# Altium integrated library Wurth_Elektronik_Passive_rev16a.IntLib: 1143 symbols (part 17 of 28)
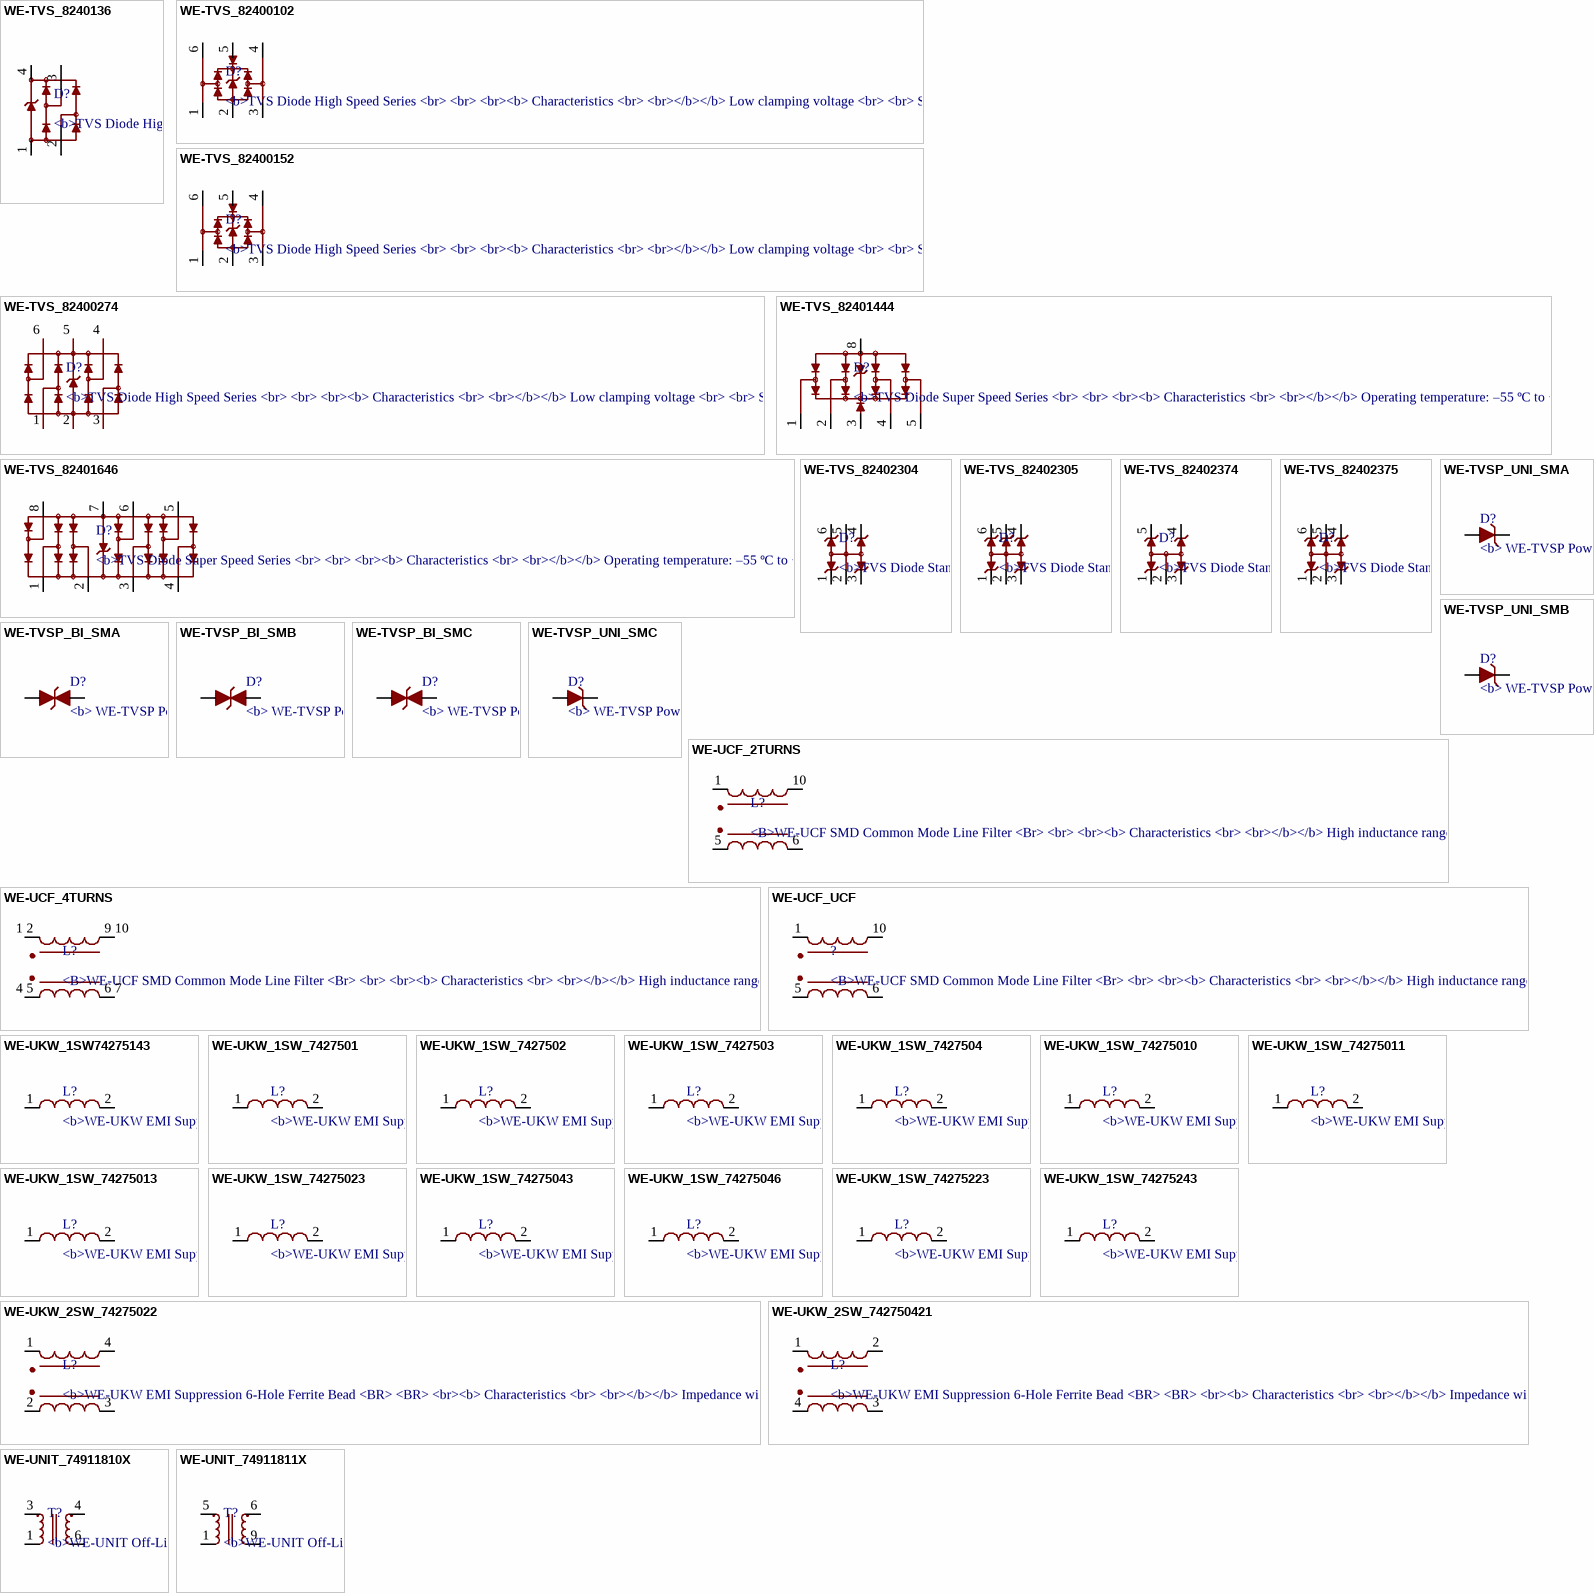
[diagram p74: symbols WE-TVS_8240136 to WE-UNIT_74911811X]

## WE-UKW_1SW_7427503
designator L?, comment <b>WE-UKW EMI Suppression 6-Hole Ferrite Bead / <BR> / <BR> / <br><b> Characteristics / <br> / <br></b></b> Impedance will increase with more turns, available in 1 to 3 turns / <br> / <br> 4 different materials available for perfect interference suppression / <Br> / <br> Also available ready-bent or in individual length / <br> / <br> Maximum current capability is 3 A / 5 A (short-time) / <br> / <br> Operating temperature: –25 ºC to +125 ºC / <br> / <br> / <br><b> Applications / <br> / <br></b> Protection against radio frequency interferences of components on PCB’s of PC’s, text processing and other digital devices / <br> / <br> / <br> / <br><a href="http://katalog.we-online.de/media/images/eisos/FeUKW_pf2.jpg" title="Enlarge picture"> / <img src="http://katalog.we-online.de/media/thumbs2/eisos/thb_FeUKW_pf2.jpg" width="320"></a><p> / Details see: <a href="http://katalog.we-online.de/en/pbs/WE-UKW/S/">http://katalog.we-online.de/en/pbs/WE-UKW/S/</a><p> / </b>Created  by  Dan Xu 2014-06-10<br> / </b>2014 (C) Wurth Elektronik
footprint WE-UKW_7427503
pins: 1, 2

## WE-UKW_1SW_7427504
designator L?, comment <b>WE-UKW EMI Suppression 6-Hole Ferrite Bead / <BR> / <BR> / <br><b> Characteristics / <br> / <br></b></b> Impedance will increase with more turns, available in 1 to 3 turns / <br> / <br> 4 different materials available for perfect interference suppression / <Br> / <br> Also available ready-bent or in individual length / <br> / <br> Maximum current capability is 3 A / 5 A (short-time) / <br> / <br> Operating temperature: –25 ºC to +125 ºC / <br> / <br> / <br><b> Applications / <br> / <br></b> Protection against radio frequency interferences of components on PCB’s of PC’s, text processing and other digital devices / <br> / <br> / <br> / <br><a href="http://katalog.we-online.de/media/images/eisos/FeUKW_pf2.jpg" title="Enlarge picture"> / <img src="http://katalog.we-online.de/media/thumbs2/eisos/thb_FeUKW_pf2.jpg" width="320"></a><p> / Details see: <a href="http://katalog.we-online.de/en/pbs/WE-UKW/S/">http://katalog.we-online.de/en/pbs/WE-UKW/S/</a><p> / </b>Created  by  Dan Xu 2014-06-10<br> / </b>2014 (C) Wurth Elektronik
footprint WE-UKW_7427504
pins: 1, 2

## WE-UKW_1SW_74275010
designator L?, comment <b>WE-UKW EMI Suppression 6-Hole Ferrite Bead / <BR> / <BR> / <br><b> Characteristics / <br> / <br></b></b> Impedance will increase with more turns, available in 1 to 3 turns / <br> / <br> 4 different materials available for perfect interference suppression / <Br> / <br> Also available ready-bent or in individual length / <br> / <br> Maximum current capability is 3 A / 5 A (short-time) / <br> / <br> Operating temperature: –25 ºC to +125 ºC / <br> / <br> / <br><b> Applications / <br> / <br></b> Protection against radio frequency interferences of components on PCB’s of PC’s, text processing and other digital devices / <br> / <br> / <br> / <br><a href="http://katalog.we-online.de/media/images/eisos/FeUKW_pf2.jpg" title="Enlarge picture"> / <img src="http://katalog.we-online.de/media/thumbs2/eisos/thb_FeUKW_pf2.jpg" width="320"></a><p> / Details see: <a href="http://katalog.we-online.de/en/pbs/WE-UKW/S/">http://katalog.we-online.de/en/pbs/WE-UKW/S/</a><p> / </b>Created  by  Dan Xu 2014-06-10<br> / </b>2014 (C) Wurth Elektronik
footprint WE-UKW_74275010
pins: 1, 2

## WE-UKW_1SW_74275011
designator L?, comment <b>WE-UKW EMI Suppression 6-Hole Ferrite Bead / <BR> / <BR> / <br><b> Characteristics / <br> / <br></b></b> Impedance will increase with more turns, available in 1 to 3 turns / <br> / <br> 4 different materials available for perfect interference suppression / <Br> / <br> Also available ready-bent or in individual length / <br> / <br> Maximum current capability is 3 A / 5 A (short-time) / <br> / <br> Operating temperature: –25 ºC to +125 ºC / <br> / <br> / <br><b> Applications / <br> / <br></b> Protection against radio frequency interferences of components on PCB’s of PC’s, text processing and other digital devices / <br> / <br> / <br> / <br><a href="http://katalog.we-online.de/media/images/eisos/FeUKW_pf2.jpg" title="Enlarge picture"> / <img src="http://katalog.we-online.de/media/thumbs2/eisos/thb_FeUKW_pf2.jpg" width="320"></a><p> / Details see: <a href="http://katalog.we-online.de/en/pbs/WE-UKW/S/">http://katalog.we-online.de/en/pbs/WE-UKW/S/</a><p> / </b>Created  by  Dan Xu 2014-06-10<br> / </b>2014 (C) Wurth Elektronik
footprint WE-UKW_74275011
pins: 1, 2

## WE-UKW_1SW_74275013
designator L?, comment <b>WE-UKW EMI Suppression 6-Hole Ferrite Bead / <BR> / <BR> / <br><b> Characteristics / <br> / <br></b></b> Impedance will increase with more turns, available in 1 to 3 turns / <br> / <br> 4 different materials available for perfect interference suppression / <Br> / <br> Also available ready-bent or in individual length / <br> / <br> Maximum current capability is 3 A / 5 A (short-time) / <br> / <br> Operating temperature: –25 ºC to +125 ºC / <br> / <br> / <br><b> Applications / <br> / <br></b> Protection against radio frequency interferences of components on PCB’s of PC’s, text processing and other digital devices / <br> / <br> / <br> / <br><a href="http://katalog.we-online.de/media/images/eisos/FeUKW_pf2.jpg" title="Enlarge picture"> / <img src="http://katalog.we-online.de/media/thumbs2/eisos/thb_FeUKW_pf2.jpg" width="320"></a><p> / Details see: <a href="http://katalog.we-online.de/en/pbs/WE-UKW/S/">http://katalog.we-online.de/en/pbs/WE-UKW/S/</a><p> / </b>Created  by  Dan Xu 2014-06-10<br> / </b>2014 (C) Wurth Elektronik
footprint WE-UKW_74275013
pins: 1, 2

## WE-UKW_1SW_74275023
designator L?, comment <b>WE-UKW EMI Suppression 6-Hole Ferrite Bead / <BR> / <BR> / <br><b> Characteristics / <br> / <br></b></b> Impedance will increase with more turns, available in 1 to 3 turns / <br> / <br> 4 different materials available for perfect interference suppression / <Br> / <br> Also available ready-bent or in individual length / <br> / <br> Maximum current capability is 3 A / 5 A (short-time) / <br> / <br> Operating temperature: –25 ºC to +125 ºC / <br> / <br> / <br><b> Applications / <br> / <br></b> Protection against radio frequency interferences of components on PCB’s of PC’s, text processing and other digital devices / <br> / <br> / <br> / <br><a href="http://katalog.we-online.de/media/images/eisos/FeUKW_pf2.jpg" title="Enlarge picture"> / <img src="http://katalog.we-online.de/media/thumbs2/eisos/thb_FeUKW_pf2.jpg" width="320"></a><p> / Details see: <a href="http://katalog.we-online.de/en/pbs/WE-UKW/S/">http://katalog.we-online.de/en/pbs/WE-UKW/S/</a><p> / </b>Created  by  Dan Xu 2014-06-10<br> / </b>2014 (C) Wurth Elektronik
footprint WE-UKW_74275023
pins: 1, 2

## WE-UKW_1SW_74275043
designator L?, comment <b>WE-UKW EMI Suppression 6-Hole Ferrite Bead / <BR> / <BR> / <br><b> Characteristics / <br> / <br></b></b> Impedance will increase with more turns, available in 1 to 3 turns / <br> / <br> 4 different materials available for perfect interference suppression / <Br> / <br> Also available ready-bent or in individual length / <br> / <br> Maximum current capability is 3 A / 5 A (short-time) / <br> / <br> Operating temperature: –25 ºC to +125 ºC / <br> / <br> / <br><b> Applications / <br> / <br></b> Protection against radio frequency interferences of components on PCB’s of PC’s, text processing and other digital devices / <br> / <br> / <br> / <br><a href="http://katalog.we-online.de/media/images/eisos/FeUKW_pf2.jpg" title="Enlarge picture"> / <img src="http://katalog.we-online.de/media/thumbs2/eisos/thb_FeUKW_pf2.jpg" width="320"></a><p> / Details see: <a href="http://katalog.we-online.de/en/pbs/WE-UKW/S/">http://katalog.we-online.de/en/pbs/WE-UKW/S/</a><p> / </b>Created  by  Dan Xu 2014-06-10<br> / </b>2014 (C) Wurth Elektronik
footprint WE-UKW_74275043
pins: 1, 2

## WE-UKW_1SW_74275046
designator L?, comment <b>WE-UKW EMI Suppression 6-Hole Ferrite Bead / <BR> / <BR> / <br><b> Characteristics / <br> / <br></b></b> Impedance will increase with more turns, available in 1 to 3 turns / <br> / <br> 4 different materials available for perfect interference suppression / <Br> / <br> Also available ready-bent or in individual length / <br> / <br> Maximum current capability is 3 A / 5 A (short-time) / <br> / <br> Operating temperature: –25 ºC to +125 ºC / <br> / <br> / <br><b> Applications / <br> / <br></b> Protection against radio frequency interferences of components on PCB’s of PC’s, text processing and other digital devices / <br> / <br> / <br> / <br><a href="http://katalog.we-online.de/media/images/eisos/FeUKW_pf2.jpg" title="Enlarge picture"> / <img src="http://katalog.we-online.de/media/thumbs2/eisos/thb_FeUKW_pf2.jpg" width="320"></a><p> / Details see: <a href="http://katalog.we-online.de/en/pbs/WE-UKW/S/">http://katalog.we-online.de/en/pbs/WE-UKW/S/</a><p> / </b>Created  by  Dan Xu 2014-06-10<br> / </b>2014 (C) Wurth Elektronik
footprint WE-UKW_74275046
pins: 1, 2

## WE-UKW_1SW_74275223
designator L?, comment <b>WE-UKW EMI Suppression 6-Hole Ferrite Bead / <BR> / <BR> / <br><b> Characteristics / <br> / <br></b></b> Impedance will increase with more turns, available in 1 to 3 turns / <br> / <br> 4 different materials available for perfect interference suppression / <Br> / <br> Also available ready-bent or in individual length / <br> / <br> Maximum current capability is 3 A / 5 A (short-time) / <br> / <br> Operating temperature: –25 ºC to +125 ºC / <br> / <br> / <br><b> Applications / <br> / <br></b> Protection against radio frequency interferences of components on PCB’s of PC’s, text processing and other digital devices / <br> / <br> / <br> / <br><a href="http://katalog.we-online.de/media/images/eisos/FeUKW_pf2.jpg" title="Enlarge picture"> / <img src="http://katalog.we-online.de/media/thumbs2/eisos/thb_FeUKW_pf2.jpg" width="320"></a><p> / Details see: <a href="http://katalog.we-online.de/en/pbs/WE-UKW/S/">http://katalog.we-online.de/en/pbs/WE-UKW/S/</a><p> / </b>Created  by  Dan Xu 2014-06-10<br> / </b>2014 (C) Wurth Elektronik
footprint WE-UKW_74275223
pins: 1, 2

## WE-UKW_1SW_74275243
designator L?, comment <b>WE-UKW EMI Suppression 6-Hole Ferrite Bead / <BR> / <BR> / <br><b> Characteristics / <br> / <br></b></b> Impedance will increase with more turns, available in 1 to 3 turns / <br> / <br> 4 different materials available for perfect interference suppression / <Br> / <br> Also available ready-bent or in individual length / <br> / <br> Maximum current capability is 3 A / 5 A (short-time) / <br> / <br> Operating temperature: –25 ºC to +125 ºC / <br> / <br> / <br><b> Applications / <br> / <br></b> Protection against radio frequency interferences of components on PCB’s of PC’s, text processing and other digital devices / <br> / <br> / <br> / <br><a href="http://katalog.we-online.de/media/images/eisos/FeUKW_pf2.jpg" title="Enlarge picture"> / <img src="http://katalog.we-online.de/media/thumbs2/eisos/thb_FeUKW_pf2.jpg" width="320"></a><p> / Details see: <a href="http://katalog.we-online.de/en/pbs/WE-UKW/S/">http://katalog.we-online.de/en/pbs/WE-UKW/S/</a><p> / </b>Created  by  Dan Xu 2014-06-10<br> / </b>2014 (C) Wurth Elektronik
footprint WE-UKW_74275243
pins: 1, 2

## WE-UKW_2SW_74275022
designator L?, comment <b>WE-UKW EMI Suppression 6-Hole Ferrite Bead / <BR> / <BR> / <br><b> Characteristics / <br> / <br></b></b> Impedance will increase with more turns, available in 1 to 3 turns / <br> / <br> 4 different materials available for perfect interference suppression / <Br> / <br> Also available ready-bent or in individual length / <br> / <br> Maximum current capability is 3 A / 5 A (short-time) / <br> / <br> Operating temperature: –25 ºC to +125 ºC / <br> / <br> / <br><b> Applications / <br> / <br></b> Protection against radio frequency interferences of components on PCB’s of PC’s, text processing and other digital devices / <br> / <br> / <br> / <br><a href="http://katalog.we-online.de/media/images/eisos/FeUKW_pf2.jpg" title="Enlarge picture"> / <img src="http://katalog.we-online.de/media/thumbs2/eisos/thb_FeUKW_pf2.jpg" width="320"></a><p> / Details see: <a href="http://katalog.we-online.de/en/pbs/WE-UKW/S/">http://katalog.we-online.de/en/pbs/WE-UKW/S/</a><p> / </b>Created  by  Dan Xu 2014-06-10<br> / </b>2014 (C) Wurth Elektronik
footprint WE-UKW_74275022
pins: 1, 2 4, 3, 4 2

## WE-UKW_2SW_742750421
designator L?, comment <b>WE-UKW EMI Suppression 6-Hole Ferrite Bead / <BR> / <BR> / <br><b> Characteristics / <br> / <br></b></b> Impedance will increase with more turns, available in 1 to 3 turns / <br> / <br> 4 different materials available for perfect interference suppression / <Br> / <br> Also available ready-bent or in individual length / <br> / <br> Maximum current capability is 3 A / 5 A (short-time) / <br> / <br> Operating temperature: –25 ºC to +125 ºC / <br> / <br> / <br><b> Applications / <br> / <br></b> Protection against radio frequency interferences of components on PCB’s of PC’s, text processing and other digital devices / <br> / <br> / <br> / <br><a href="http://katalog.we-online.de/media/images/eisos/FeUKW_pf2.jpg" title="Enlarge picture"> / <img src="http://katalog.we-online.de/media/thumbs2/eisos/thb_FeUKW_pf2.jpg" width="320"></a><p> / Details see: <a href="http://katalog.we-online.de/en/pbs/WE-UKW/S/">http://katalog.we-online.de/en/pbs/WE-UKW/S/</a><p> / </b>Created  by  Dan Xu 2014-06-10<br> / </b>2014 (C) Wurth Elektronik
footprint WE-UKW_742750421
pins: 1, 2, 3, 4

## WE-UNIT_74911810X
designator T?, comment <b>WE-UNIT Off-Line Transformer / <br> / <br> / <br><b> Characteristics / <br> / <br></b></b> Nominal input voltage: 125–375 VDC (85–265 VAC) / <br> / <br> Output power 3 W and 9 W / <br> / <br> Operating temperature: –40 °C to +125 °C / <br> / <br> Clearance and creepage distance 6 mm min. / <br> / <br> Insulation test voltage: 4 kVAC, 1 Minute / <br> / <br> Design compliant to EN 61558-2-16: reinforced insulation; except 749 118 10 xx: Basic insulation / <br> / <br> / <br><b> Applications / <br> / <br></b> Designed for Tiny Switch ICs from Power Integration and NCP101x or 105x of ON Semiconductor / <br> / <br> For SMPS with universal input from 85 VAC up to 265 VAC / <br> / <br> / <br> / <br><a href="http://katalog.we-online.de/media/images/eisos/UtUNIT_MID_pf2.jpg" title="Enlarge picture"> / <img src="http://katalog.we-online.de/media/thumbs2/eisos/thb_UtUNIT_MID_pf2.jpg" width="320"></a><p> / Details see: <a href="http://katalog.we-online.de/en/pbs/WE-UNIT?m">http://katalog.we-online.de/en/pbs/WE-UNIT?m</a><p> / Updated  by  Dan Xu 2014-07-11<br> / 2014 (C) Wurth Elektronik
footprint WE_E13/7/4_THT_VERTIKAL_6PIN
pins: 1 4, 3 1, 4 2, 6 3

## WE-UNIT_74911811X
designator T?, comment <b>WE-UNIT Off-Line Transformer / <br> / <br> / <br><b> Characteristics / <br> / <br></b></b> Nominal input voltage: 125–375 VDC (85–265 VAC) / <br> / <br> Output power 3 W and 9 W / <br> / <br> Operating temperature: –40 °C to +125 °C / <br> / <br> Clearance and creepage distance 6 mm min. / <br> / <br> Insulation test voltage: 4 kVAC, 1 Minute / <br> / <br> Design compliant to EN 61558-2-16: reinforced insulation; except 749 118 10 xx: Basic insulation / <br> / <br> / <br><b> Applications / <br> / <br></b> Designed for Tiny Switch ICs from Power Integration and NCP101x or 105x of ON Semiconductor / <br> / <br> For SMPS with universal input from 85 VAC up to 265 VAC / <br> / <br> / <br> / <br><a href="http://katalog.we-online.de/media/images/eisos/UtUNIT_MID_pf2.jpg" title="Enlarge picture"> / <img src="http://katalog.we-online.de/media/thumbs2/eisos/thb_UtUNIT_MID_pf2.jpg" width="320"></a><p> / Details see: <a href="http://katalog.we-online.de/en/pbs/WE-UNIT?m">http://katalog.we-online.de/en/pbs/WE-UNIT?m</a><p> / Updated  by  Dan Xu 2014-07-11<br> / 2014 (C) Wurth Elektronik
footprint WE_E13/7/4_THT_HORIZONTAL_9PIN
pins: 1 4, 5 1, 6 2, 9 3

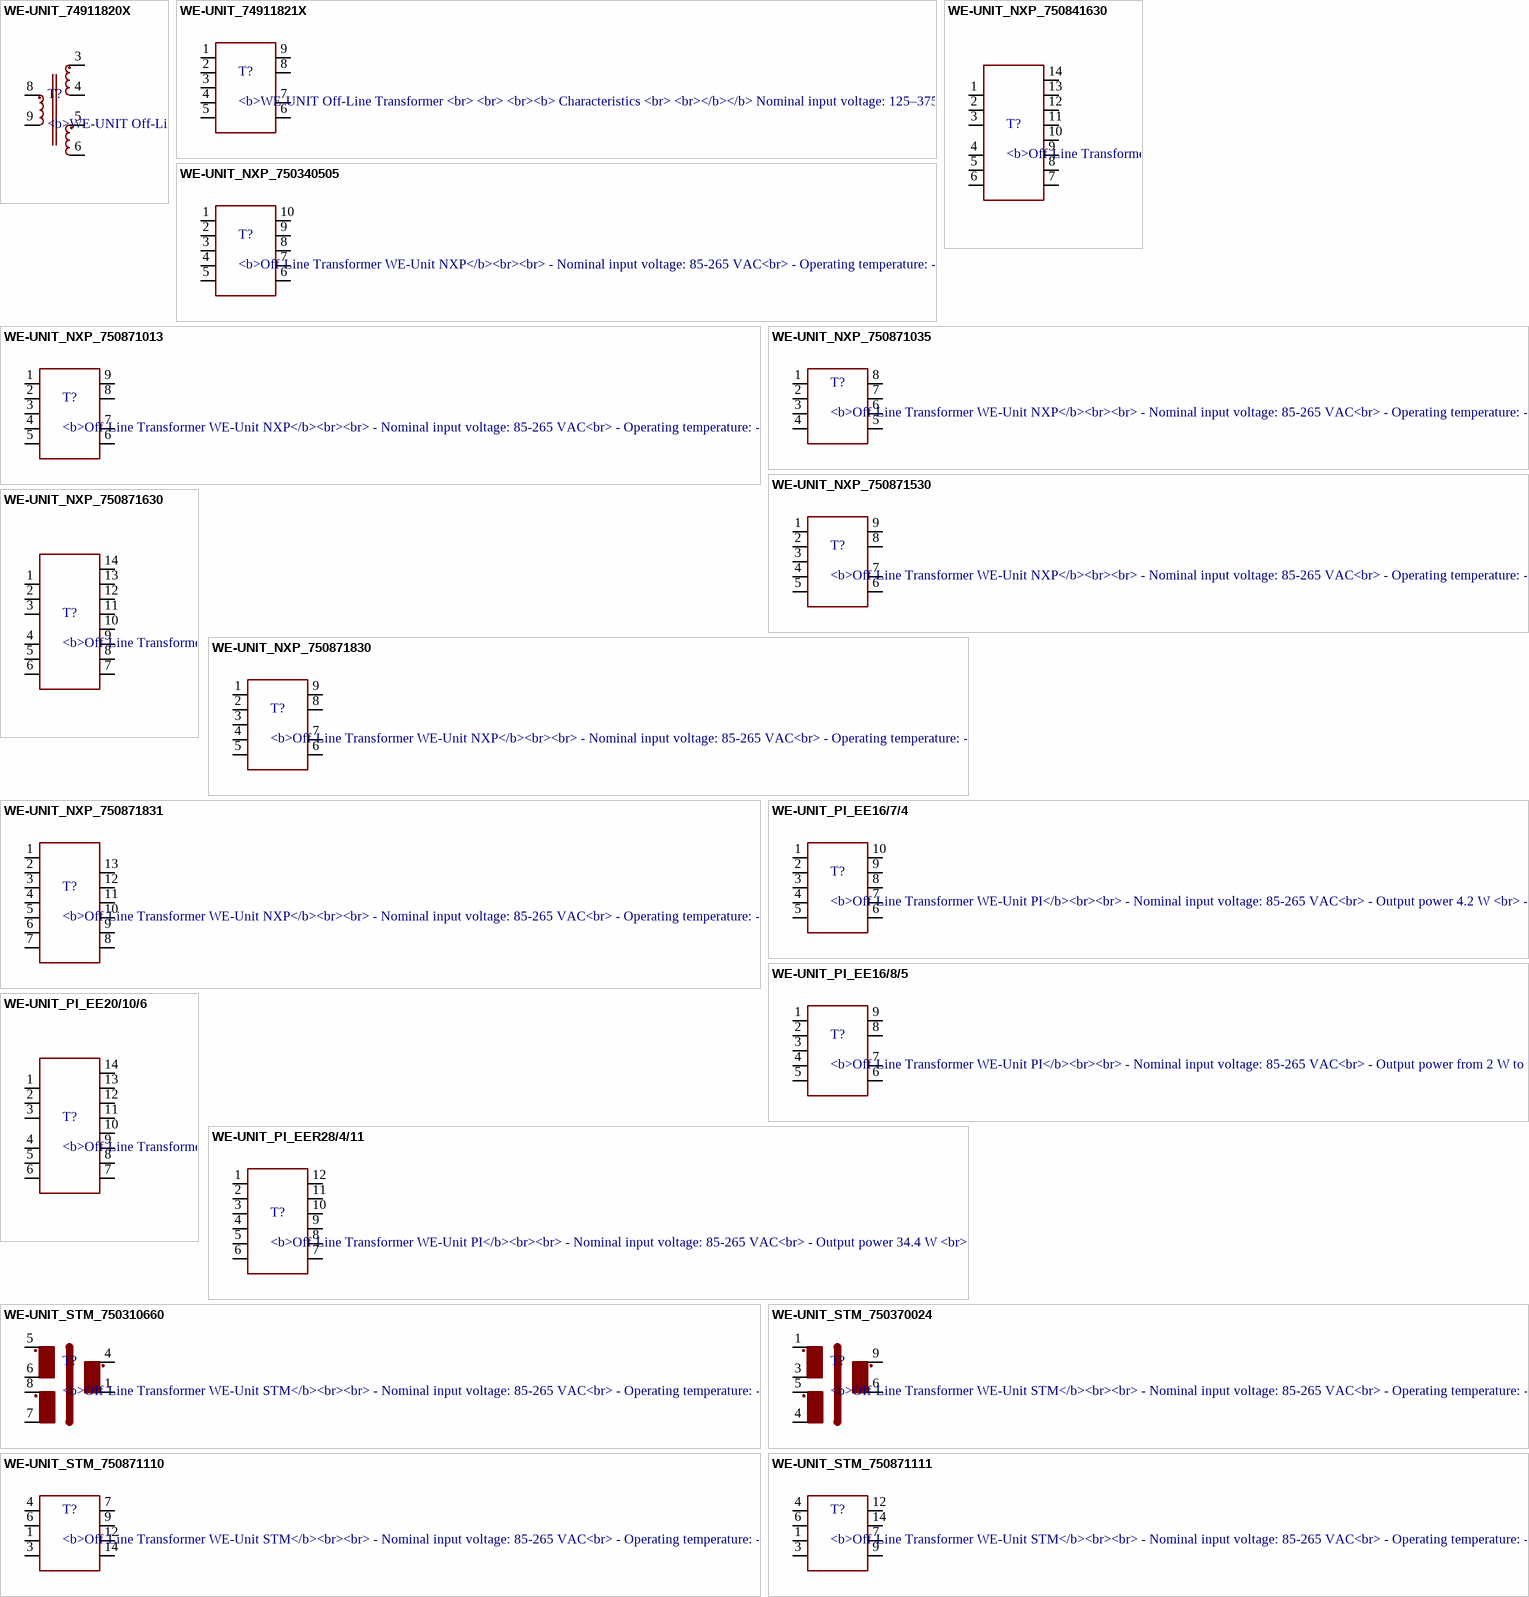
[diagram p48: symbols WE-UNIT_74911820X to WE-UNIT_STM_750871111]

## WE-UNIT_74911820X
designator T?, comment <b>WE-UNIT Off-Line Transformer / <br> / <br> / <br><b> Characteristics / <br> / <br></b></b> Nominal input voltage: 125–375 VDC (85–265 VAC) / <br> / <br> Output power 3 W and 9 W / <br> / <br> Operating temperature: –40 °C to +125 °C / <br> / <br> Clearance and creepage distance 6 mm min. / <br> / <br> Insulation test voltage: 4 kVAC, 1 Minute / <br> / <br> Design compliant to EN 61558-2-16: reinforced insulation; except 749 118 10 xx: Basic insulation / <br> / <br> / <br><b> Applications / <br> / <br></b> Designed for Tiny Switch ICs from Power Integration and NCP101x or 105x of ON Semiconductor / <br> / <br> For SMPS with universal input from 85 VAC up to 265 VAC / <br> / <br> / <br> / <br><a href="http://katalog.we-online.de/media/images/eisos/UtUNIT_MID_pf2.jpg" title="Enlarge picture"> / <img src="http://katalog.we-online.de/media/thumbs2/eisos/thb_UtUNIT_MID_pf2.jpg" width="320"></a><p> / Details see: <a href="http://katalog.we-online.de/en/pbs/WE-UNIT?m">http://katalog.we-online.de/en/pbs/WE-UNIT?m</a><p> / Updated  by  Dan Xu 2014-07-11<br> / 2014 (C) Wurth Elektronik
footprint WE_E16/7/4_THT_VERTIKAL_10PIN
pins: 3 2, 4 3, 5 4, 6 5, 8 1, 9 6

## WE-UNIT_74911821X
designator T?, comment <b>WE-UNIT Off-Line Transformer / <br> / <br> / <br><b> Characteristics / <br> / <br></b></b> Nominal input voltage: 125–375 VDC (85–265 VAC) / <br> / <br> Output power 3 W and 9 W / <br> / <br> Operating temperature: –40 °C to +125 °C / <br> / <br> Clearance and creepage distance 6 mm min. / <br> / <br> Insulation test voltage: 4 kVAC, 1 Minute / <br> / <br> Design compliant to EN 61558-2-16: reinforced insulation; except 749 118 10 xx: Basic insulation / <br> / <br> / <br><b> Applications / <br> / <br></b> Designed for Tiny Switch ICs from Power Integration and NCP101x or 105x of ON Semiconductor / <br> / <br> For SMPS with universal input from 85 VAC up to 265 VAC / <br> / <br> / <br> / <br><a href="http://katalog.we-online.de/media/images/eisos/UtUNIT_MID_pf2.jpg" title="Enlarge picture"> / <img src="http://katalog.we-online.de/media/thumbs2/eisos/thb_UtUNIT_MID_pf2.jpg" width="320"></a><p> / Details see: <a href="http://katalog.we-online.de/en/pbs/WE-UNIT?m">http://katalog.we-online.de/en/pbs/WE-UNIT?m</a><p> / Updated  by  Dan Xu 2014-07-11<br> / 2014 (C) Wurth Elektronik
footprint WE_E16/8/5_THT_HORIZONTAL_9PIN
pins: 1 5, 2 4, 3, 4 2, 5 1, 6 9, 7 8, 8 7, 9 6

## WE-UNIT_NXP_750340505
designator T?, comment <b>Off-Line Transformer WE-Unit NXP</b><br><br> / - Nominal input voltage: 85-265 VAC<br> / - Operating temperature: -40°C to +125 °C<br> / - Isolation voltage 4 kVAC<br><br> / -- Especially designed for several ICs from NXP SSL2101<br> / -- Universal input<br> / -- Smart meters<br> / -- Dimmable 12 V LED driver<br> / -- Offline-switch mode power supplies / <br><a href="http://katalog.we-online.de/media/images/ctm/UtUNIT_NXP_pf2.jpg" title="Enlarge picture"> / <img src="http://katalog.we-online.de/media/images/ctm/UtUNIT_NXP_pf2.jpg" width="320"></a><p> / Details see: <a href="http://katalog.we-online.de/en/ctm/MID-UNIT_NXP/750340505?">http://katalog.we-online.de/en/ctm/MID-UNIT_NXP/750340505?</a><p> / Updated  by  Dan Xu 2014-07-11<br> / 2014 (C) Würth Elektronik
footprint WE_EFD25_THT_HORIZONTAL_10PIN
pins: 1, 2, 3, 4, 5, 6, 7, 8, 9, 10

## WE-UNIT_NXP_750841630
designator T?, comment <b>Off-Line Transformer WE-Unit NXP</b><br><br> / - Nominal input voltage: 85-265 VAC<br> / - Operating temperature: -40°C to +125 °C<br> / - Isolation voltage 4 kVAC<br><br> / -- Especially designed for several ICs from NXP TEA1522<br> / -- Universal input<br> / -- Smart meters<br> / -- Dimmable 12 V LED driver<br> / -- Offline-switch mode power supplies / <br><a href="http://katalog.we-online.de/media/images/ctm/UtUNIT_NXP_pf2.jpg" title="Enlarge picture"> / <img src="http://katalog.we-online.de/media/images/ctm/UtUNIT_NXP_pf2.jpg" width="320"></a><p> / Details see: <a href="http://katalog.we-online.de/en/ctm/MID-UNIT_NXP/750841630?">http://katalog.we-online.de/en/ctm/MID-UNIT_NXP/750841630?</a><p> / Updated  by  Dan Xu 2014-07-11<br> / 2014 (C) Würth Elektronik
footprint WE_EE20/10/6_THT_HORIZONTAL_14PIN
pins: 1, 2, 3, 4, 5, 6, 7, 8, 9, 10, 11, 12, 13, 14

## WE-UNIT_NXP_750871013
designator T?, comment <b>Off-Line Transformer WE-Unit NXP</b><br><br> / - Nominal input voltage: 85-265 VAC<br> / - Operating temperature: -40°C to +125 °C<br> / - Isolation voltage 4 kVAC<br><br> / -- Especially designed for several ICs from NXP TEA1521T<br> / -- Universal input<br> / -- Smart meters<br> / -- Dimmable 12 V LED driver<br> / -- Offline-switch mode power supplies / <br><a href="http://katalog.we-online.de/media/images/ctm/UtUNIT_NXP_pf2.jpg" title="Enlarge picture"> / <img src="http://katalog.we-online.de/media/images/ctm/UtUNIT_NXP_pf2.jpg" width="320"></a><p> / Details see: <a href="http://katalog.we-online.de/en/ctm/MID-UNIT_NXP/750871013?">http://katalog.we-online.de/en/ctm/MID-UNIT_NXP/750871013?</a><p> / Updated  by  Dan Xu 2014-07-11<br> / 2014 (C) Würth Elektronik
footprint WE_EE13/7/4_THT_HORIZONTAL_9PIN
pins: 1 5, 2 4, 3, 4 2, 5 1, 6 9, 7 8, 8 7, 9 6

## WE-UNIT_NXP_750871035
designator T?, comment <b>Off-Line Transformer WE-Unit NXP</b><br><br> / - Nominal input voltage: 85-265 VAC<br> / - Operating temperature: -40°C to +125 °C<br> / - Isolation voltage 4 kVAC<br><br> / -- Especially designed for several ICs from NXP TEA1522T<br> / -- Universal input<br> / -- Smart meters<br> / -- Dimmable 12 V LED driver<br> / -- Offline-switch mode power supplies / <br><a href="http://katalog.we-online.de/media/images/ctm/UtUNIT_NXP_pf2.jpg" title="Enlarge picture"> / <img src="http://katalog.we-online.de/media/images/ctm/UtUNIT_NXP_pf2.jpg" width="320"></a><p> / Details see: <a href="http://katalog.we-online.de/en/ctm/MID-UNIT_NXP/750871035?">http://katalog.we-online.de/en/ctm/MID-UNIT_NXP/750871035?</a><p> / Updated  by  Dan Xu 2014-07-11<br> / 2014 (C) Würth Elektronik
footprint WE_EE13/6/6_THT_HORIZONTAL_8PIN
pins: 1 4, 2 3, 3 2, 4 1, 5 8, 6 7, 7 6, 8 5

## WE-UNIT_NXP_750871530
designator T?, comment <b>Off-Line Transformer WE-Unit NXP</b><br><br> / - Nominal input voltage: 85-265 VAC<br> / - Operating temperature: -40°C to +125 °C<br> / - Isolation voltage 4 kVAC<br><br> / -- Especially designed for several ICs from NXP TEA1522<br> / -- Universal input<br> / -- Smart meters<br> / -- Dimmable 12 V LED driver<br> / -- Offline-switch mode power supplies / <br><a href="http://katalog.we-online.de/media/images/ctm/UtUNIT_NXP_pf2.jpg" title="Enlarge picture"> / <img src="http://katalog.we-online.de/media/images/ctm/UtUNIT_NXP_pf2.jpg" width="320"></a><p> / Details see: <a href="http://katalog.we-online.de/en/ctm/MID-UNIT_NXP/750871530?">http://katalog.we-online.de/en/ctm/MID-UNIT_NXP/750871530?</a><p> / Updated  by  Dan Xu 2014-07-11<br> / 2014 (C) Würth Elektronik
footprint WE_EE16/8/5_THT_HORIZONTAL_9PIN
pins: 1 5, 2 4, 3, 4 2, 5 1, 6 9, 7 8, 8 7, 9 6

## WE-UNIT_NXP_750871630
designator T?, comment <b>Off-Line Transformer WE-Unit NXP</b><br><br> / - Nominal input voltage: 85-265 VAC<br> / - Operating temperature: -40°C to +125 °C<br> / - Isolation voltage 4 kVAC<br><br> / -- Especially designed for several ICs from NXP TEA1623PH<br> / -- Universal input<br> / -- Smart meters<br> / -- Dimmable 12 V LED driver<br> / -- Offline-switch mode power supplies / <br><a href="http://katalog.we-online.de/media/images/ctm/UtUNIT_NXP_pf2.jpg" title="Enlarge picture"> / <img src="http://katalog.we-online.de/media/images/ctm/UtUNIT_NXP_pf2.jpg" width="320"></a><p> / Details see: <a href="http://katalog.we-online.de/en/ctm/MID-UNIT_NXP/750871630?">http://katalog.we-online.de/en/ctm/MID-UNIT_NXP/750871630?</a><p> / Updated  by  Dan Xu 2014-07-11<br> / 2014 (C) Würth Elektronik
footprint WE_EE20/10/6_THT_HORIZONTAL_14PIN
pins: 1, 2, 3, 4, 5, 6, 7, 8, 9, 10, 11, 12, 13, 14

## WE-UNIT_NXP_750871830
designator T?, comment <b>Off-Line Transformer WE-Unit NXP</b><br><br> / - Nominal input voltage: 85-265 VAC<br> / - Operating temperature: -40°C to +125 °C<br> / - Isolation voltage 4 kVAC<br><br> / -- Especially designed for several ICs from NXP TEA1523P<br> / -- Universal input<br> / -- Smart meters<br> / -- Dimmable 12 V LED driver<br> / -- Offline-switch mode power supplies / <br><a href="http://katalog.we-online.de/media/images/ctm/UtUNIT_NXP_pf2.jpg" title="Enlarge picture"> / <img src="http://katalog.we-online.de/media/images/ctm/UtUNIT_NXP_pf2.jpg" width="320"></a><p> / Details see: <a href="http://katalog.we-online.de/en/ctm/MID-UNIT_NXP/750871830?">http://katalog.we-online.de/en/ctm/MID-UNIT_NXP/750871830?</a><p> / Updated  by  Dan Xu 2014-07-11<br> / 2014 (C) Würth Elektronik
footprint WE_EE16/8/5_THT_HORIZONTAL_9PIN
pins: 1 5, 2 4, 3, 4 2, 5 1, 6 9, 7 8, 8 7, 9 6

## WE-UNIT_NXP_750871831
designator T?, comment <b>Off-Line Transformer WE-Unit NXP</b><br><br> / - Nominal input voltage: 85-265 VAC<br> / - Operating temperature: -40°C to +125 °C<br> / - Isolation voltage 4 kVAC<br><br> / -- Especially designed for several ICs from NXP TEA1623PH<br> / -- Universal input<br> / -- Smart meters<br> / -- Dimmable 12 V LED driver<br> / -- Offline-switch mode power supplies / <br><a href="http://katalog.we-online.de/media/images/ctm/UtUNIT_NXP_pf2.jpg" title="Enlarge picture"> / <img src="http://katalog.we-online.de/media/images/ctm/UtUNIT_NXP_pf2.jpg" width="320"></a><p> / Details see: <a href="http://katalog.we-online.de/en/ctm/MID-UNIT_NXP/750871831?">http://katalog.we-online.de/en/ctm/MID-UNIT_NXP/750871831?</a><p> / Updated  by  Dan Xu 2014-07-11<br> / 2014 (C) Würth Elektronik
footprint WE_EE25/13/7_THT_HORIZONTAL_13PIN
pins: 1, 2, 3, 4, 5, 6, 7, 8, 9, 10, 11, 12, 13

## WE-UNIT_PI_EE16/7/4
designator T?, comment <b>Off-Line Transformer WE-Unit PI</b><br><br> / - Nominal input voltage: 85-265 VAC<br> / - Output power 4.2 W <br> / - Operating temperature: -40°C to +125 °C<br> / - Clearance and creepage distance 6 mm min.<br> / - Isolation voltage 4 kVAC<br><br> / -- Especially designed for several ICs from Power Integrations LNK605<br> / -- Universal input<br> / -- Offline-switch mode power supplies / <br><a href="http://katalog.we-online.de/media/images/ctm/MID-UNIT%20PI_pf2.jpg" title="Enlarge picture"> / <img src="http://katalog.we-online.de/media/images/ctm/MID-UNIT%20PI_pf2.jpg" width="320"></a><p> / Details see: <a href="http://katalog.we-online.de/en/ctm/MID-UNIT_PI?">http://katalog.we-online.de/en/ctm/MID-UNIT_PI?</a><p> / Updated  by  Dan Xu 2014-07-11<br> / 2014 (C) Würth Elektronik
footprint WE_EE16/7/4_THT_HORIZONTAL_10PIN
pins: 1, 2, 3, 4, 5, 6, 7, 8, 9, 10

## WE-UNIT_PI_EE16/8/5
designator T?, comment <b>Off-Line Transformer WE-Unit PI</b><br><br> / - Nominal input voltage: 85-265 VAC<br> / - Output power from 2 W to 5 W <br> / - Operating temperature: -40°C to +125 °C<br> / - Clearance and creepage distance 6 mm min.<br> / - Isolation voltage 4 kVAC<br><br> / -- Especially designed for several ICs from Power Integrations<br> / -- Universal input<br> / -- Offline-switch mode power supplies / <br><a href="http://katalog.we-online.de/media/images/ctm/MID-UNIT%20PI_pf2.jpg" title="Enlarge picture"> / <img src="http://katalog.we-online.de/media/images/ctm/MID-UNIT%20PI_pf2.jpg" width="320"></a><p> / Details see: <a href="http://katalog.we-online.de/en/ctm/MID-UNIT_PI?">http://katalog.we-online.de/en/ctm/MID-UNIT_PI?</a><p> / Updated  by  Dan Xu 2014-07-11<br> / 2014 (C) Würth Elektronik
footprint WE_EE16/8/5_THT_HORIZONTAL_9PIN
pins: 1 5, 2 4, 3, 4 2, 5 1, 6 9, 7 8, 8 7, 9 6

## WE-UNIT_PI_EE20/10/6
designator T?, comment <b>Off-Line Transformer WE-Unit PI</b><br><br> / - Nominal input voltage: 85-265 VAC<br> / - Output power 12.0 W <br> / - Operating temperature: -40°C to +125 °C<br> / - Clearance and creepage distance 6 mm min.<br> / - Isolation voltage 4 kVAC<br><br> / -- Especially designed for several ICs from Power Integrations TNY278<br> / -- Universal input<br> / -- Offline-switch mode power supplies / <br><a href="http://katalog.we-online.de/media/images/ctm/MID-UNIT%20PI_pf2.jpg" title="Enlarge picture"> / <img src="http://katalog.we-online.de/media/images/ctm/MID-UNIT%20PI_pf2.jpg" width="320"></a><p> / Details see: <a href="http://katalog.we-online.de/en/ctm/MID-UNIT_PI?">http://katalog.we-online.de/en/ctm/MID-UNIT_PI?</a><p> / Updated  by  Dan Xu 2014-07-11<br> / 2014 (C) Würth Elektronik
footprint WE_EE20/10/6_THT_HORIZONTAL_14PIN
pins: 1, 2, 3, 4, 5, 6, 7, 8, 9, 10, 11, 12, 13, 14

## WE-UNIT_PI_EER28/4/11
designator T?, comment <b>Off-Line Transformer WE-Unit PI</b><br><br> / - Nominal input voltage: 85-265 VAC<br> / - Output power 34.4 W <br> / - Operating temperature: -40°C to +125 °C<br> / - Clearance and creepage distance 6 mm min.<br> / - Isolation voltage 4 kVAC<br><br> / -- Especially designed for several ICs from Power Integrations TOP258<br> / -- Universal input<br> / -- Offline-switch mode power supplies / <br><a href="http://katalog.we-online.de/media/images/ctm/MID-UNIT%20PI_pf2.jpg" title="Enlarge picture"> / <img src="http://katalog.we-online.de/media/images/ctm/MID-UNIT%20PI_pf2.jpg" width="320"></a><p> / Details see: <a href="http://katalog.we-online.de/en/ctm/MID-UNIT_PI?">http://katalog.we-online.de/en/ctm/MID-UNIT_PI?</a><p> / Updated  by  Dan Xu 2014-07-11<br> / 2014 (C) Würth Elektronik
footprint WE_EER28/4/11_HORIZONTAL_12PIN
pins: 1, 2, 3, 4, 5, 6, 7, 8, 9, 10, 11, 12

## WE-UNIT_STM_750310660
designator T?, comment <b>Off-Line Transformer WE-Unit STM</b><br><br> / - Nominal input voltage: 85-265 VAC<br> / - Operating temperature: -40°C to +125 °C<br> / - Isolation voltage 4 kVAC<br><br> / -- Especially designed for several ICs from STMicroelectronics VIPer 17H<br> / -- Universal input<br> / -- Offline-switch mode power supplies / <br><a href="http://katalog.we-online.de/media/images/ctm/UtUNIT_STM_pf2.jpg" title="Enlarge picture"> / <img src="http://katalog.we-online.de/media/images/ctm/UtUNIT_STM_pf2.jpg" width="320"></a><p> / Details see: <a href="http://katalog.we-online.de/en/ctm/MID-UNIT_STM/750310660?">http://katalog.we-online.de/en/ctm/MID-UNIT_STM/750310660?</a><p> / Updated  by  Dan Xu 2014-07-11<br> / 2014 (C) Würth Elektronik
footprint WE_EE16/8/5_THT_HORIZONTAL_6PIN
pins: 1 5, 4 6, 5 1, 6 2, 7 4, 8 3

## WE-UNIT_STM_750370024
designator T?, comment <b>Off-Line Transformer WE-Unit STM</b><br><br> / - Nominal input voltage: 85-265 VAC<br> / - Operating temperature: -40°C to +125 °C<br> / - Isolation voltage 4 kVAC<br><br> / -- Especially designed for several ICs from STMicroelectronics VIPer 17H<br> / -- Universal input<br> / -- Offline-switch mode power supplies / <br><a href="http://katalog.we-online.de/media/images/ctm/UtUNIT_STM_pf2.jpg" title="Enlarge picture"> / <img src="http://katalog.we-online.de/media/images/ctm/UtUNIT_STM_pf2.jpg" width="320"></a><p> / Details see: <a href="http://katalog.we-online.de/en/ctm/MID-UNIT_STM/750370024?">http://katalog.we-online.de/en/ctm/MID-UNIT_STM/750370024?</a><p> / Updated  by  Dan Xu 2014-07-11<br> / 2014 (C) Würth Elektronik
footprint WE_E13/7/4_THT_HORIZONTAL_9PIN
pins: 1, 3 2, 4, 5 3, 6 5, 9 6

## WE-UNIT_STM_750871110
designator T?, comment <b>Off-Line Transformer WE-Unit STM</b><br><br> / - Nominal input voltage: 85-265 VAC<br> / - Operating temperature: -40°C to +125 °C<br> / - Isolation voltage 4 kVAC<br><br> / -- Especially designed for several ICs from STMicroelectronics VIPer 28<br> / -- Universal input<br> / -- Offline-switch mode power supplies / <br><a href="http://katalog.we-online.de/media/images/ctm/UtUNIT_STM_pf2.jpg" title="Enlarge picture"> / <img src="http://katalog.we-online.de/media/images/ctm/UtUNIT_STM_pf2.jpg" width="320"></a><p> / Details see: <a href="http://katalog.we-online.de/en/ctm/MID-UNIT_STM/750871110?">http://katalog.we-online.de/en/ctm/MID-UNIT_STM/750871110?</a><p> / Updated  by  Dan Xu 2014-07-11<br> / 2014 (C) Würth Elektronik
footprint WE_EE20/10/6_THT_HORIZONTAL_14PIN_1
pins: 1 2, 3 1, 4, 6 3, 7 5, 9 6, 12 7, 14 8

## WE-UNIT_STM_750871111
designator T?, comment <b>Off-Line Transformer WE-Unit STM</b><br><br> / - Nominal input voltage: 85-265 VAC<br> / - Operating temperature: -40°C to +125 °C<br> / - Isolation voltage 4 kVAC<br><br> / -- Especially designed for several ICs from STMicroelectronics VIPer 27L<br> / -- Universal input<br> / -- Offline-switch mode power supplies / <br><a href="http://katalog.we-online.de/media/images/ctm/UtUNIT_STM_pf2.jpg" title="Enlarge picture"> / <img src="http://katalog.we-online.de/media/images/ctm/UtUNIT_STM_pf2.jpg" width="320"></a><p> / Details see: <a href="http://katalog.we-online.de/en/ctm/MID-UNIT_STM/750871111?">http://katalog.we-online.de/en/ctm/MID-UNIT_STM/750871111?</a><p> / Updated  by  Dan Xu 2014-07-11<br> / 2014 (C) Würth Elektronik
footprint WE_EE20/10/6_THT_HORIZONTAL_8PIN
pins: 1 2, 3 1, 4, 6 3, 7, 9 8, 12 5, 14 6

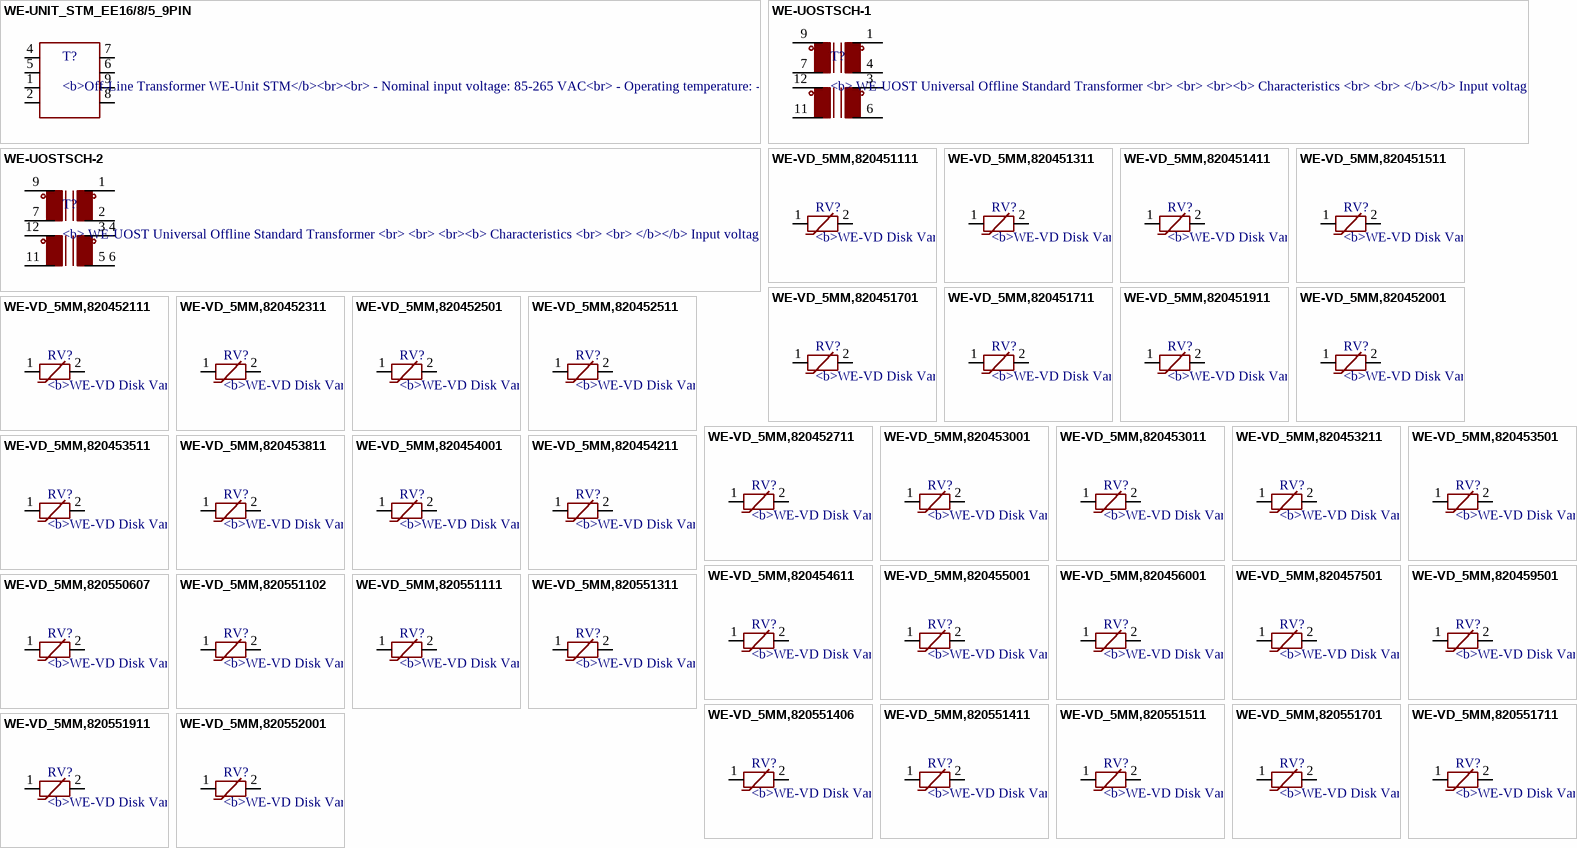
[diagram p49: symbols WE-UNIT_STM_EE16/8/5_9PIN to WE-VD_5MM,820552001]

## WE-UNIT_STM_EE16/8/5_9PIN
designator T?, comment <b>Off-Line Transformer WE-Unit STM</b><br><br> / - Nominal input voltage: 85-265 VAC<br> / - Operating temperature: -40°C to +125 °C<br> / - Isolation voltage 4 kVAC<br><br> / -- Especially designed for several ICs from STMicroelectronics VIPer 17L and VIPer 15L<br> / -- Universal input<br> / -- Offline-switch mode power supplies / <br><a href="http://katalog.we-online.de/media/images/ctm/UtUNIT_STM_pf2.jpg" title="Enlarge picture"> / <img src="http://katalog.we-online.de/media/images/ctm/UtUNIT_STM_pf2.jpg" width="320"></a><p> / Details see: <a href="http://katalog.we-online.de/en/ctm/MID-UNIT_STM?">http://katalog.we-online.de/en/ctm/MID-UNIT_STM?</a><p> / Updated  by  Dan Xu 2014-07-11<br> / 2014 (C) Würth Elektronik
footprint WE_EE16/8/5_THT_HORIZONTAL_9PIN
pins: 1 2, 2 1, 4, 5 3, 6, 7 5, 8, 9 7

## WE-UOSTSCH-1
designator T?, comment <b> WE-UOST Universal Offline Standard Transformer / <br> / <br> / <br><b> Characteristics / <br> / <br> </b></b> Input voltage range 85–265 VAC (125–375 VDC) / <br> / <br> Output power 12–16 W / <br> / <br> Designed to comply with EN61558-2-16: Reinforced insulation / <br> / <br> Creepage and clearance distance >6.5 mm / <br> / <br> Insulation test voltage 4 kVAC / <br> / <br> For SMD assembly / <br> / <br> / <br><b> Applications / <br> / <br></b> SMPS with power up to 16 W / <br> / <br> Auxiliary power supplies / <br> / <br> Usable with all low power AC/DC ICs like LT3798/99, UCC28610, ViPER & Tiny/Link Switch / <br> / <br> / <br> / <br><a href="http://katalog.we-online.de/media/images/eisos/UtUOST_MID_pf2.jpg" title="Enlarge picture"> / <img src="http://katalog.we-online.de/media/images/eisos/UtUOST_MID_pf2.jpg" width="320"></a><p> / Details see: <a href="http://katalog.we-online.de/en/pbs/WE-UOST?">http://katalog.we-online.de/en/pbs/WE-UOST?</a><p> / Updated  by  Dan Xu 2014-07-11<br> / 2014 (C) Wurth Elektronik
MANUFACTURER: Würth Elektronik eiSos GmbH; CREATED-BY: Christin Otto; COMPANY-URL: http://www.we-online.de; CREATED-DATE: MAR 2013; DATASHEET-URL: http://katalog.we-online.de/en/pbs/WE-UOST?m=t&sq=uost&sp=&sp=http%3A%2F%2Fwww.we-online.de%2Fweb%2Fen%2Felectronic_components%2Fsearchpage_PBS.php%3Fsearch%3DUOST
footprint WE-UOST
pins: 1, 3, 4, 6, 7, 9, 11, 12

## WE-UOSTSCH-2
designator T?, comment <b> WE-UOST Universal Offline Standard Transformer / <br> / <br> / <br><b> Characteristics / <br> / <br> </b></b> Input voltage range 85–265 VAC (125–375 VDC) / <br> / <br> Output power 12–16 W / <br> / <br> Designed to comply with EN61558-2-16: Reinforced insulation / <br> / <br> Creepage and clearance distance >6.5 mm / <br> / <br> Insulation test voltage 4 kVAC / <br> / <br> For SMD assembly / <br> / <br> / <br><b> Applications / <br> / <br></b> SMPS with power up to 16 W / <br> / <br> Auxiliary power supplies / <br> / <br> Usable with all low power AC/DC ICs like LT3798/99, UCC28610, ViPER & Tiny/Link Switch / <br> / <br> / <br> / <br><a href="http://katalog.we-online.de/media/images/eisos/UtUOST_MID_pf2.jpg" title="Enlarge picture"> / <img src="http://katalog.we-online.de/media/images/eisos/UtUOST_MID_pf2.jpg" width="320"></a><p> / Details see: <a href="http://katalog.we-online.de/en/pbs/WE-UOST?">http://katalog.we-online.de/en/pbs/WE-UOST?</a><p> / Updated  by  Dan Xu 2014-07-11<br> / 2014 (C) Wurth Elektronik
MANUFACTURER: Würth Elektronik eiSos GmbH; CREATED-BY: Christin Zierenner; COMPANY-URL: http://www.we-online.de; CREATED-DATE: JAN 2013; DATASHEET-URL: http://katalog.we-online.de/en/pbs/WE-UOST?m=t&sq=uost&sp=&sp=http%3A%2F%2Fwww.we-online.de%2Fweb%2Fen%2Felectronic_components%2Fsearchpage_PBS.php%3Fsearch%3DUOST
footprint WE-UOST
pins: 1, 2 4, 3 4 3, 5 6 6, 7, 9, 11, 12

## WE-VD_5MM,820451111
designator RV?, comment <b>WE-VD Disk Varistor / <br> / <br> / <br><b>Characteristics / <br> / <br></b></b> Low clamping voltage / <br> / <br> After a surge impulse the varistor works immediately in normal mode so there is no slip current / <br> / <br> Excellent absorption at surge impulses / <br> / <br> Operating temperature: –40 ºC to +85 ºC for types up to 95 VRMS –40 ºC to +125 ºC for types from 115 VRMS / <br> / <br> Response time < 25 ns / <br> / <br> UL1449 3rd Edition, CSA and VDE approved UL: File E332875 CSA: File 224856 VDE: File 40016986 and 40016998 IEC: 60950-1: 2005 Annex Q from ∅ 10 mm / <br> / <br> / <br><b> Applications / <br> / <br></b> 12–48 VDC distribution / <br> / <br> 110–400 V power supply / <br> / <br> Leakage of voltage peaks / <br> / <br> Surge protection in accordance with EN 61000-4-5 / <br> / <br> / <br> / <br><a href="http://katalog.we-online.de/media/images/eisos/VarVD_pf2.jpg" title="Enlarge picture"> / <img src="http://katalog.we-online.de/media/images/eisos/VarVD_pf2.jpg" width="320"></a><p> / Details see: <a href="http://katalog.we-online.de/en/pbs/WE-VD?">http://katalog.we-online.de/en/pbs/WE-VD?</a><p> / Updated  by  Dan Xu 2014-07-11<br> / 2014 (C) Wurth Elektronik
MANUFACTURER: Würth Elektronik eiSos GmbH; CREATED-BY: Christin Zierenner; COMPANY-URL: http://www.we-online.de; CREATED-DATE: May 2012; DATASHEET-URL: http://katalog.we-online.de/kataloge/eisos/index.php?language=en&pf=WE-VD
footprint WE-VD_5MM-DIA
pins: 1, 2

## WE-VD_5MM,820451311
designator RV?, comment <b>WE-VD Disk Varistor / <br> / <br> / <br><b>Characteristics / <br> / <br></b></b> Low clamping voltage / <br> / <br> After a surge impulse the varistor works immediately in normal mode so there is no slip current / <br> / <br> Excellent absorption at surge impulses / <br> / <br> Operating temperature: –40 ºC to +85 ºC for types up to 95 VRMS –40 ºC to +125 ºC for types from 115 VRMS / <br> / <br> Response time < 25 ns / <br> / <br> UL1449 3rd Edition, CSA and VDE approved UL: File E332875 CSA: File 224856 VDE: File 40016986 and 40016998 IEC: 60950-1: 2005 Annex Q from ∅ 10 mm / <br> / <br> / <br><b> Applications / <br> / <br></b> 12–48 VDC distribution / <br> / <br> 110–400 V power supply / <br> / <br> Leakage of voltage peaks / <br> / <br> Surge protection in accordance with EN 61000-4-5 / <br> / <br> / <br> / <br><a href="http://katalog.we-online.de/media/images/eisos/VarVD_pf2.jpg" title="Enlarge picture"> / <img src="http://katalog.we-online.de/media/images/eisos/VarVD_pf2.jpg" width="320"></a><p> / Details see: <a href="http://katalog.we-online.de/en/pbs/WE-VD?">http://katalog.we-online.de/en/pbs/WE-VD?</a><p> / Updated  by  Dan Xu 2014-07-11<br> / 2014 (C) Wurth Elektronik
MANUFACTURER: Würth Elektronik eiSos GmbH; CREATED-BY: Christin Zierenner; COMPANY-URL: http://www.we-online.de; CREATED-DATE: May 2012; DATASHEET-URL: http://katalog.we-online.de/kataloge/eisos/index.php?language=en&pf=WE-VD
footprint WE-VD_5MM-DIA
pins: 1, 2

## WE-VD_5MM,820451411
designator RV?, comment <b>WE-VD Disk Varistor / <br> / <br> / <br><b>Characteristics / <br> / <br></b></b> Low clamping voltage / <br> / <br> After a surge impulse the varistor works immediately in normal mode so there is no slip current / <br> / <br> Excellent absorption at surge impulses / <br> / <br> Operating temperature: –40 ºC to +85 ºC for types up to 95 VRMS –40 ºC to +125 ºC for types from 115 VRMS / <br> / <br> Response time < 25 ns / <br> / <br> UL1449 3rd Edition, CSA and VDE approved UL: File E332875 CSA: File 224856 VDE: File 40016986 and 40016998 IEC: 60950-1: 2005 Annex Q from ∅ 10 mm / <br> / <br> / <br><b> Applications / <br> / <br></b> 12–48 VDC distribution / <br> / <br> 110–400 V power supply / <br> / <br> Leakage of voltage peaks / <br> / <br> Surge protection in accordance with EN 61000-4-5 / <br> / <br> / <br> / <br><a href="http://katalog.we-online.de/media/images/eisos/VarVD_pf2.jpg" title="Enlarge picture"> / <img src="http://katalog.we-online.de/media/images/eisos/VarVD_pf2.jpg" width="320"></a><p> / Details see: <a href="http://katalog.we-online.de/en/pbs/WE-VD?">http://katalog.we-online.de/en/pbs/WE-VD?</a><p> / Updated  by  Dan Xu 2014-07-11<br> / 2014 (C) Wurth Elektronik
MANUFACTURER: Würth Elektronik eiSos GmbH; CREATED-BY: Christin Zierenner; COMPANY-URL: http://www.we-online.de; CREATED-DATE: May 2012; DATASHEET-URL: http://katalog.we-online.de/kataloge/eisos/index.php?language=en&pf=WE-VD
footprint WE-VD_5MM-DIA
pins: 1, 2

## WE-VD_5MM,820451511
designator RV?, comment <b>WE-VD Disk Varistor / <br> / <br> / <br><b>Characteristics / <br> / <br></b></b> Low clamping voltage / <br> / <br> After a surge impulse the varistor works immediately in normal mode so there is no slip current / <br> / <br> Excellent absorption at surge impulses / <br> / <br> Operating temperature: –40 ºC to +85 ºC for types up to 95 VRMS –40 ºC to +125 ºC for types from 115 VRMS / <br> / <br> Response time < 25 ns / <br> / <br> UL1449 3rd Edition, CSA and VDE approved UL: File E332875 CSA: File 224856 VDE: File 40016986 and 40016998 IEC: 60950-1: 2005 Annex Q from ∅ 10 mm / <br> / <br> / <br><b> Applications / <br> / <br></b> 12–48 VDC distribution / <br> / <br> 110–400 V power supply / <br> / <br> Leakage of voltage peaks / <br> / <br> Surge protection in accordance with EN 61000-4-5 / <br> / <br> / <br> / <br><a href="http://katalog.we-online.de/media/images/eisos/VarVD_pf2.jpg" title="Enlarge picture"> / <img src="http://katalog.we-online.de/media/images/eisos/VarVD_pf2.jpg" width="320"></a><p> / Details see: <a href="http://katalog.we-online.de/en/pbs/WE-VD?">http://katalog.we-online.de/en/pbs/WE-VD?</a><p> / Updated  by  Dan Xu 2014-07-11<br> / 2014 (C) Wurth Elektronik
MANUFACTURER: Würth Elektronik eiSos GmbH; CREATED-BY: Christin Zierenner; COMPANY-URL: http://www.we-online.de; CREATED-DATE: May 2012; DATASHEET-URL: http://katalog.we-online.de/kataloge/eisos/index.php?language=en&pf=WE-VD
footprint WE-VD_5MM-DIA
pins: 1, 2

## WE-VD_5MM,820451701
designator RV?, comment <b>WE-VD Disk Varistor / <br> / <br> / <br><b>Characteristics / <br> / <br></b></b> Low clamping voltage / <br> / <br> After a surge impulse the varistor works immediately in normal mode so there is no slip current / <br> / <br> Excellent absorption at surge impulses / <br> / <br> Operating temperature: –40 ºC to +85 ºC for types up to 95 VRMS –40 ºC to +125 ºC for types from 115 VRMS / <br> / <br> Response time < 25 ns / <br> / <br> UL1449 3rd Edition, CSA and VDE approved UL: File E332875 CSA: File 224856 VDE: File 40016986 and 40016998 IEC: 60950-1: 2005 Annex Q from ∅ 10 mm / <br> / <br> / <br><b> Applications / <br> / <br></b> 12–48 VDC distribution / <br> / <br> 110–400 V power supply / <br> / <br> Leakage of voltage peaks / <br> / <br> Surge protection in accordance with EN 61000-4-5 / <br> / <br> / <br> / <br><a href="http://katalog.we-online.de/media/images/eisos/VarVD_pf2.jpg" title="Enlarge picture"> / <img src="http://katalog.we-online.de/media/images/eisos/VarVD_pf2.jpg" width="320"></a><p> / Details see: <a href="http://katalog.we-online.de/en/pbs/WE-VD?">http://katalog.we-online.de/en/pbs/WE-VD?</a><p> / Updated  by  Dan Xu 2014-07-11<br> / 2014 (C) Wurth Elektronik
MANUFACTURER: Würth Elektronik eiSos GmbH; CREATED-BY: Christin Zierenner; COMPANY-URL: http://www.we-online.de; CREATED-DATE: May 2012; DATASHEET-URL: http://katalog.we-online.de/kataloge/eisos/index.php?language=en&pf=WE-VD
footprint WE-VD_5MM-DIA
pins: 1, 2

## WE-VD_5MM,820451711
designator RV?, comment <b>WE-VD Disk Varistor / <br> / <br> / <br><b>Characteristics / <br> / <br></b></b> Low clamping voltage / <br> / <br> After a surge impulse the varistor works immediately in normal mode so there is no slip current / <br> / <br> Excellent absorption at surge impulses / <br> / <br> Operating temperature: –40 ºC to +85 ºC for types up to 95 VRMS –40 ºC to +125 ºC for types from 115 VRMS / <br> / <br> Response time < 25 ns / <br> / <br> UL1449 3rd Edition, CSA and VDE approved UL: File E332875 CSA: File 224856 VDE: File 40016986 and 40016998 IEC: 60950-1: 2005 Annex Q from ∅ 10 mm / <br> / <br> / <br><b> Applications / <br> / <br></b> 12–48 VDC distribution / <br> / <br> 110–400 V power supply / <br> / <br> Leakage of voltage peaks / <br> / <br> Surge protection in accordance with EN 61000-4-5 / <br> / <br> / <br> / <br><a href="http://katalog.we-online.de/media/images/eisos/VarVD_pf2.jpg" title="Enlarge picture"> / <img src="http://katalog.we-online.de/media/images/eisos/VarVD_pf2.jpg" width="320"></a><p> / Details see: <a href="http://katalog.we-online.de/en/pbs/WE-VD?">http://katalog.we-online.de/en/pbs/WE-VD?</a><p> / Updated  by  Dan Xu 2014-07-11<br> / 2014 (C) Wurth Elektronik
MANUFACTURER: Würth Elektronik eiSos GmbH; CREATED-BY: Christin Zierenner; COMPANY-URL: http://www.we-online.de; CREATED-DATE: May 2012; DATASHEET-URL: http://katalog.we-online.de/kataloge/eisos/index.php?language=en&pf=WE-VD
footprint WE-VD_5MM-DIA
pins: 1, 2

## WE-VD_5MM,820451911
designator RV?, comment <b>WE-VD Disk Varistor / <br> / <br> / <br><b>Characteristics / <br> / <br></b></b> Low clamping voltage / <br> / <br> After a surge impulse the varistor works immediately in normal mode so there is no slip current / <br> / <br> Excellent absorption at surge impulses / <br> / <br> Operating temperature: –40 ºC to +85 ºC for types up to 95 VRMS –40 ºC to +125 ºC for types from 115 VRMS / <br> / <br> Response time < 25 ns / <br> / <br> UL1449 3rd Edition, CSA and VDE approved UL: File E332875 CSA: File 224856 VDE: File 40016986 and 40016998 IEC: 60950-1: 2005 Annex Q from ∅ 10 mm / <br> / <br> / <br><b> Applications / <br> / <br></b> 12–48 VDC distribution / <br> / <br> 110–400 V power supply / <br> / <br> Leakage of voltage peaks / <br> / <br> Surge protection in accordance with EN 61000-4-5 / <br> / <br> / <br> / <br><a href="http://katalog.we-online.de/media/images/eisos/VarVD_pf2.jpg" title="Enlarge picture"> / <img src="http://katalog.we-online.de/media/images/eisos/VarVD_pf2.jpg" width="320"></a><p> / Details see: <a href="http://katalog.we-online.de/en/pbs/WE-VD?">http://katalog.we-online.de/en/pbs/WE-VD?</a><p> / Updated  by  Dan Xu 2014-07-11<br> / 2014 (C) Wurth Elektronik
MANUFACTURER: Würth Elektronik eiSos GmbH; CREATED-BY: Christin Zierenner; COMPANY-URL: http://www.we-online.de; CREATED-DATE: May 2012; DATASHEET-URL: http://katalog.we-online.de/kataloge/eisos/index.php?language=en&pf=WE-VD
footprint WE-VD_5MM-DIA
pins: 1, 2

## WE-VD_5MM,820452001
designator RV?, comment <b>WE-VD Disk Varistor / <br> / <br> / <br><b>Characteristics / <br> / <br></b></b> Low clamping voltage / <br> / <br> After a surge impulse the varistor works immediately in normal mode so there is no slip current / <br> / <br> Excellent absorption at surge impulses / <br> / <br> Operating temperature: –40 ºC to +85 ºC for types up to 95 VRMS –40 ºC to +125 ºC for types from 115 VRMS / <br> / <br> Response time < 25 ns / <br> / <br> UL1449 3rd Edition, CSA and VDE approved UL: File E332875 CSA: File 224856 VDE: File 40016986 and 40016998 IEC: 60950-1: 2005 Annex Q from ∅ 10 mm / <br> / <br> / <br><b> Applications / <br> / <br></b> 12–48 VDC distribution / <br> / <br> 110–400 V power supply / <br> / <br> Leakage of voltage peaks / <br> / <br> Surge protection in accordance with EN 61000-4-5 / <br> / <br> / <br> / <br><a href="http://katalog.we-online.de/media/images/eisos/VarVD_pf2.jpg" title="Enlarge picture"> / <img src="http://katalog.we-online.de/media/images/eisos/VarVD_pf2.jpg" width="320"></a><p> / Details see: <a href="http://katalog.we-online.de/en/pbs/WE-VD?">http://katalog.we-online.de/en/pbs/WE-VD?</a><p> / Updated  by  Dan Xu 2014-07-11<br> / 2014 (C) Wurth Elektronik
MANUFACTURER: Würth Elektronik eiSos GmbH; CREATED-BY: Christin Zierenner; COMPANY-URL: http://www.we-online.de; CREATED-DATE: May 2012; DATASHEET-URL: http://katalog.we-online.de/kataloge/eisos/media/pdf/820452001.pdf
footprint WE-VD_5MM-DIA
pins: 1, 2